# Altium schematic symbol library kmilo17pet-TI_BattMgmt.SchLib: 950 symbols (part 52 of 60)
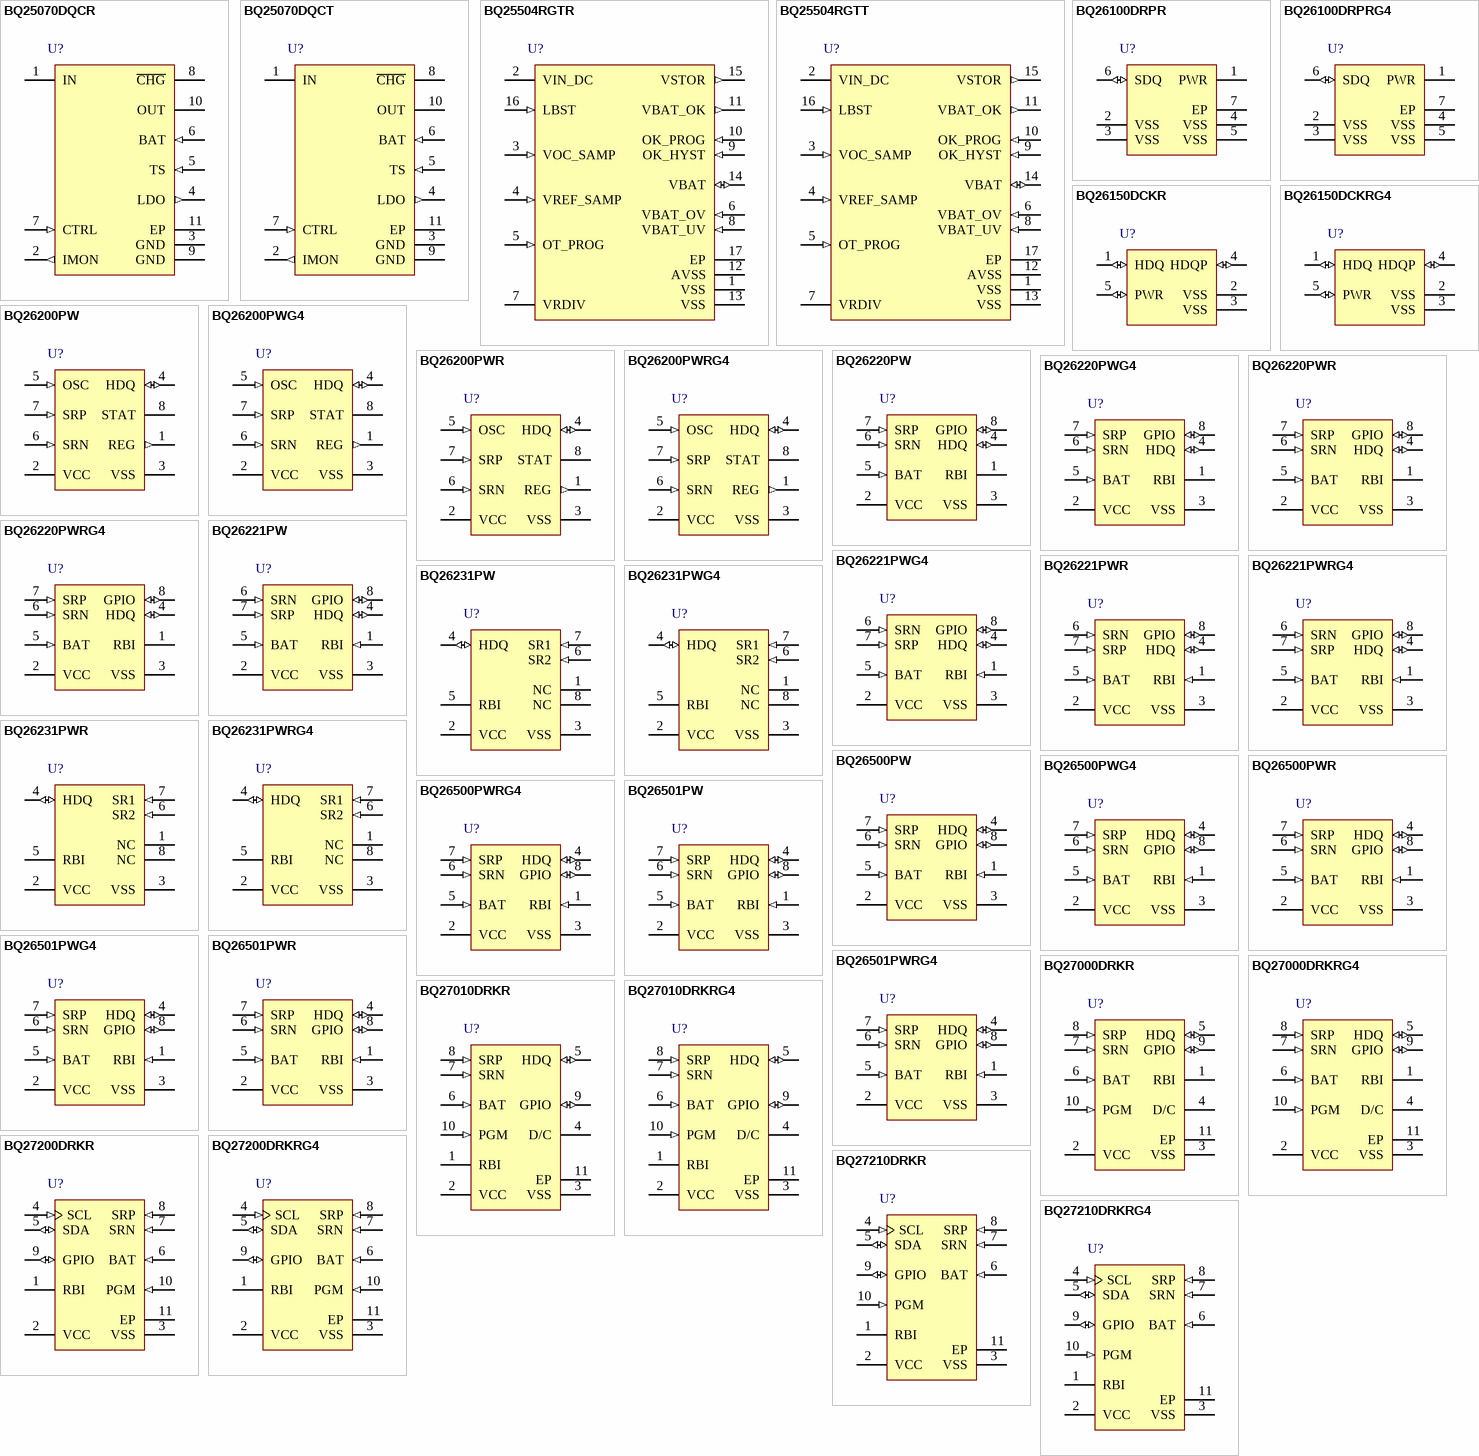
[diagram p85: symbols BQ25070DQCR to BQ27210DRKRG4]

## BQ26501PWG4
designator U?
OMAP Compatible Fuel Gauge for 1 & 2 Cell Li-Ion, -20 to 70 degC, 8-pin TSSOP (PW), Green (RoHS & no Sb/Br); PartNumber: BQ26501PWG4; Manufacturer: Texas Instruments; Lead Acid: N; SubFamily: Battery Fuel Gauge; DatasheetVersion: SLUS586B; PackageVersion: revG, Feb-2011; PackageReference: PW8; PackageDescription: 8-Pin Plastic Thin Small Outline Package 3 x 4.4 mm Body ,0.65 mm Pitch; Supplier 1: Digi-Key; Supplier Part Number 1: BQ26501PWG4-ND; Supplier Part Number 3: 595-BQ26501PWG4; Eco-Plan: Green (RoHS & no Sb/Br); Li-Ion: N; Li-Polymer: N; NiCd: N; NiMH: N; Over Voltage Protection: N; Mounting Technology: Surface Mount; Code_JEDEC: MO-153; ComponentLink1Description: Datasheet; ComponentLink1URL: http://www.ti.com/general/docs/lit/getliterature.tsp?genericPartNumber=BQ26501&fileType=pdf
footprint PW8_N (TSOP, 8-Leads, Body 3x4.4mm, Pitch 0.65mm, IPC Medium Density)
footprint PW8_L (TSOP, 8-Leads, Body 3x4.4mm, Pitch 0.65mm, IPC High Density)
footprint PW8_M (TSOP, 8-Leads, Body 3x4.4mm, Pitch 0.65mm, IPC Low Density)
pins: 1 RBI (in) "Register back-up input", 2 VCC (power) "VCC supply input", 3 VSS (power) "Ground input", 4 HDQ (io) "Single-wire HDQ serial interface", 5 BAT (in) "Battery voltage sense input", 6 SRN (in) "Current sense input (negative)", 7 SRP (in) "Current sense input (positive)", 8 GPIO (io) "General-purpose input/output port"

## BQ26501PWR
designator U?
OMAP Compatible Fuel Gauge for 1 & 2 Cell Li-Ion, -20 to 70 degC, 8-pin TSSOP (PW), Green (RoHS & no Sb/Br); PartNumber: BQ26501PWR; Manufacturer: Texas Instruments; Lead Acid: N; SubFamily: Battery Fuel Gauge; DatasheetVersion: SLUS586B; PackageVersion: revG, Feb-2011; PackageReference: PW8; PackageDescription: 8-Pin Plastic Thin Small Outline Package 3 x 4.4 mm Body ,0.65 mm Pitch; Supplier 1: Digi-Key; Supplier Part Number 1: 296-31471-2-ND; Supplier Part Number 3: 296-31471-6-ND; Eco-Plan: Green (RoHS & no Sb/Br); Li-Ion: N; Li-Polymer: N; NiCd: N; NiMH: N; Over Voltage Protection: N; Mounting Technology: Surface Mount; Code_JEDEC: MO-153; ComponentLink1Description: Datasheet; ComponentLink1URL: http://www.ti.com/general/docs/lit/getliterature.tsp?genericPartNumber=BQ26501&fileType=pdf
footprint PW8_N (TSOP, 8-Leads, Body 3x4.4mm, Pitch 0.65mm, IPC Medium Density)
footprint PW8_L (TSOP, 8-Leads, Body 3x4.4mm, Pitch 0.65mm, IPC High Density)
footprint PW8_M (TSOP, 8-Leads, Body 3x4.4mm, Pitch 0.65mm, IPC Low Density)
pins: 1 RBI (in) "Register back-up input", 2 VCC (power) "VCC supply input", 3 VSS (power) "Ground input", 4 HDQ (io) "Single-wire HDQ serial interface", 5 BAT (in) "Battery voltage sense input", 6 SRN (in) "Current sense input (negative)", 7 SRP (in) "Current sense input (positive)", 8 GPIO (io) "General-purpose input/output port"

## BQ26501PWRG4
designator U?
OMAP Compatible Fuel Gauge for 1 & 2 Cell Li-Ion, -20 to 70 degC, 8-pin TSSOP (PW), Green (RoHS & no Sb/Br); PartNumber: BQ26501PWRG4; Manufacturer: Texas Instruments; Lead Acid: N; SubFamily: Battery Fuel Gauge; DatasheetVersion: SLUS586B; PackageVersion: revG, Feb-2011; PackageReference: PW8; PackageDescription: 8-Pin Plastic Thin Small Outline Package 3 x 4.4 mm Body ,0.65 mm Pitch; Supplier 1: Digi-Key; Supplier Part Number 1: BQ26501PWRG4-ND; Supplier Part Number 3: 595-BQ26501PWRG4; Eco-Plan: Green (RoHS & no Sb/Br); Li-Ion: N; Li-Polymer: N; NiCd: N; NiMH: N; Over Voltage Protection: N; Mounting Technology: Surface Mount; Code_JEDEC: MO-153; ComponentLink1Description: Datasheet; ComponentLink1URL: http://www.ti.com/general/docs/lit/getliterature.tsp?genericPartNumber=BQ26501&fileType=pdf
footprint PW8_N (TSOP, 8-Leads, Body 3x4.4mm, Pitch 0.65mm, IPC Medium Density)
footprint PW8_L (TSOP, 8-Leads, Body 3x4.4mm, Pitch 0.65mm, IPC High Density)
footprint PW8_M (TSOP, 8-Leads, Body 3x4.4mm, Pitch 0.65mm, IPC Low Density)
pins: 1 RBI (in) "Register back-up input", 2 VCC (power) "VCC supply input", 3 VSS (power) "Ground input", 4 HDQ (io) "Single-wire HDQ serial interface", 5 BAT (in) "Battery voltage sense input", 6 SRN (in) "Current sense input (negative)", 7 SRP (in) "Current sense input (positive)", 8 GPIO (io) "General-purpose input/output port"

## BQ27000DRKR
designator U?
Single-Cell Li-Ion and Li-Pol Battery Gas Gauge IC, -20 to 70 degC, 10-pin VSON (DRK), Green (RoHS & no Sb/Br); PartNumber: BQ27000DRKR; Manufacturer: Texas Instruments; Lead Acid: N; Li-Ion: Y; SubFamily: Battery Fuel Gauge; DatasheetVersion: SLUS556D; PackageVersion: revD, Feb-2011; PackageReference: DRK10-2050X2650TP; PackageDescription: 10-Pin Plastic Small Outline No-Lead, 4 x 3 x 1 mm Body, 0.5 mm Pitch, Exposed Pad; Supplier 1: Digi-Key; Supplier Part Number 1: 296-17428-2-ND; Supplier Part Number 3: 296-17428-6-ND; Eco-Plan: Green (RoHS & no Sb/Br); Li-Polymer: N; NiCd: N; NiMH: N; Over Voltage Protection: N; Mounting Technology: Surface Mount; ComponentLink1Description: Datasheet; ComponentLink1URL: http://www.ti.com/general/docs/lit/getliterature.tsp?genericPartNumber=BQ27000&fileType=pdf
footprint DRK10-2050X2650TP (SON, 10-Leads, Body 4x3mm, Pitch 0.5mm, Thermal Pad 2.05x2.65mm, TI Recommended)
pins: 1 RBI (power) "Register back-up input", 2 VCC (power) "VCC supply input", 3 VSS (power) "Ground input", 4 D/C "Do not connect. Must be left floating or tied to VSS", 5 HDQ (io) "Single wire HDQ serial interface", 6 BAT (in) "Battery voltage sense input", 7 SRN (in) "Current sense input (negative)", 8 SRP (in) "Current sense input (positive)", 9 GPIO (io) "General purpose input/output", 10 PGM (in) "EEPROM programming voltage input", 11 EP (power) "Ground shield"

## BQ27000DRKRG4
designator U?
Single-Cell Li-Ion and Li-Pol Battery Gas Gauge IC, -20 to 70 degC, 10-pin VSON (DRK), Green (RoHS & no Sb/Br); PartNumber: BQ27000DRKRG4; Manufacturer: Texas Instruments; Lead Acid: N; Li-Ion: Y; SubFamily: Battery Fuel Gauge; DatasheetVersion: SLUS556D; PackageVersion: revD, Feb-2011; PackageReference: DRK10-2050X2650TP; PackageDescription: 10-Pin Plastic Small Outline No-Lead, 4 x 3 x 1 mm Body, 0.5 mm Pitch, Exposed Pad; Supplier 1: Digi-Key; Supplier Part Number 1: BQ27000DRKRG4-ND; Supplier Part Number 3: 595-BQ27000DRKRG4; Eco-Plan: Green (RoHS & no Sb/Br); Li-Polymer: N; NiCd: N; NiMH: N; Over Voltage Protection: N; Mounting Technology: Surface Mount; ComponentLink1Description: Datasheet; ComponentLink1URL: http://www.ti.com/general/docs/lit/getliterature.tsp?genericPartNumber=BQ27000&fileType=pdf
footprint DRK10-2050X2650TP (SON, 10-Leads, Body 4x3mm, Pitch 0.5mm, Thermal Pad 2.05x2.65mm, TI Recommended)
pins: 1 RBI (power) "Register back-up input", 2 VCC (power) "VCC supply input", 3 VSS (power) "Ground input", 4 D/C "Do not connect. Must be left floating or tied to VSS", 5 HDQ (io) "Single wire HDQ serial interface", 6 BAT (in) "Battery voltage sense input", 7 SRN (in) "Current sense input (negative)", 8 SRP (in) "Current sense input (positive)", 9 GPIO (io) "General purpose input/output", 10 PGM (in) "EEPROM programming voltage input", 11 EP (power) "Ground shield"

## BQ27010DRKR
designator U?
Li-Ion and Li-Pol Battery Gas Gauge IC for Portable Applications (bqJUNIOR), 10-pin VSON (DRK), Green (RoHS & no Sb/Br); PartNumber: BQ27010DRKR; Manufacturer: Texas Instruments; Lead Acid: N; Li-Ion: Y; SubFamily: Battery Fuel Gauge; DatasheetVersion: SLUS707B; PackageVersion: revD, Feb-2011; PackageReference: DRK10-2050X2650TP; PackageDescription: 10-Pin Plastic Small Outline No-Lead, 4 x 3 x 1 mm Body, 0.5 mm Pitch, Exposed Pad; Supplier 1: Digi-Key; Supplier Part Number 1: 296-20634-2-ND; Supplier Part Number 3: 296-20634-6-ND; Eco-Plan: Green (RoHS & no Sb/Br); Li-Polymer: Y; NiCd: N; NiMH: N; Over Voltage Protection: N; Mounting Technology: Surface Mount; ComponentLink1Description: Datasheet; ComponentLink1URL: http://www.ti.com/general/docs/lit/getliterature.tsp?genericPartNumber=BQ27010&fileType=pdf
footprint DRK10-2050X2650TP (SON, 10-Leads, Body 4x3mm, Pitch 0.5mm, Thermal Pad 2.05x2.65mm, TI Recommended)
pins: 1 RBI (power) "Register back-up input", 2 VCC (power) "VCC supply input", 3 VSS (power) "Ground input", 4 D/C "Do not connect. Must be left floating or tied to VSS", 5 HDQ (io) "Single wire HDQ serial interface", 6 BAT (in) "Battery voltage sense input", 7 SRN (in) "Current sense input (negative)", 8 SRP (in) "Current sense input (positive)", 9 GPIO (io) "General purpose input/output", 10 PGM (in) "EEPROM programming voltage input", 11 EP (power) "Ground shield"

## BQ27010DRKRG4
designator U?
Li-Ion and Li-Pol Battery Gas Gauge IC for Portable Applications (bqJUNIOR), 10-pin VSON (DRK), Green (RoHS & no Sb/Br); PartNumber: BQ27010DRKRG4; Manufacturer: Texas Instruments; Lead Acid: N; Li-Ion: Y; SubFamily: Battery Fuel Gauge; DatasheetVersion: SLUS707B; PackageVersion: revD, Feb-2011; PackageReference: DRK10-2050X2650TP; PackageDescription: 10-Pin Plastic Small Outline No-Lead, 4 x 3 x 1 mm Body, 0.5 mm Pitch, Exposed Pad; Supplier 1: Digi-Key; Supplier Part Number 1: BQ27010DRKRG4-ND; Supplier Part Number 3: 595-BQ27010DRKRG4; Eco-Plan: Green (RoHS & no Sb/Br); Li-Polymer: Y; NiCd: N; NiMH: N; Over Voltage Protection: N; Mounting Technology: Surface Mount; ComponentLink1Description: Datasheet; ComponentLink1URL: http://www.ti.com/general/docs/lit/getliterature.tsp?genericPartNumber=BQ27010&fileType=pdf
footprint DRK10-2050X2650TP (SON, 10-Leads, Body 4x3mm, Pitch 0.5mm, Thermal Pad 2.05x2.65mm, TI Recommended)
pins: 1 RBI (power) "Register back-up input", 2 VCC (power) "VCC supply input", 3 VSS (power) "Ground input", 4 D/C "Do not connect. Must be left floating or tied to VSS", 5 HDQ (io) "Single wire HDQ serial interface", 6 BAT (in) "Battery voltage sense input", 7 SRN (in) "Current sense input (negative)", 8 SRP (in) "Current sense input (positive)", 9 GPIO (io) "General purpose input/output", 10 PGM (in) "EEPROM programming voltage input", 11 EP (power) "Ground shield"

## BQ27200DRKR
designator U?
Single-Cell Li-Ion and Li-Pol Battery Gas Gauge IC with I2C Interface, -20 to 70 degC, 10-pin VSON (DRK), Green (RoHS & no Sb/Br); PartNumber: BQ27200DRKR; Manufacturer: Texas Instruments; Lead Acid: N; Li-Ion: Y; SubFamily: Battery Fuel Gauge; DatasheetVersion: SLUS556D; PackageVersion: revD, Feb-2011; PackageReference: DRK10-2050X2650TP; PackageDescription: 10-Pin Plastic Small Outline No-Lead, 4 x 3 x 1 mm Body, 0.5 mm Pitch, Exposed Pad; Supplier 1: Digi-Key; Supplier Part Number 1: 296-17521-2-ND; Supplier Part Number 3: 296-17521-6-ND; Eco-Plan: Green (RoHS & no Sb/Br); Li-Polymer: Y; NiCd: N; NiMH: N; Over Voltage Protection: N; Mounting Technology: Surface Mount; ComponentLink1Description: Datasheet; ComponentLink1URL: http://www.ti.com/general/docs/lit/getliterature.tsp?genericPartNumber=BQ27200&fileType=pdf
footprint DRK10-2050X2650TP (SON, 10-Leads, Body 4x3mm, Pitch 0.5mm, Thermal Pad 2.05x2.65mm, TI Recommended)
pins: 1 RBI (power) "Register back-up input", 2 VCC (power) "VCC supply input", 3 VSS (power) "Ground input", 4 SCL (in) "Serial clock input (I2C)", 5 SDA (io) "Serial data input (I2C)", 6 BAT (in) "Battery voltage sense input", 7 SRN (in) "Current sense input (negative)", 8 SRP (in) "Current sense input (positive)", 9 GPIO (io) "General purpose input/output", 10 PGM (in) "EEPROM programming voltage input", 11 EP (power) "Ground shield"

## BQ27200DRKRG4
designator U?
Single-Cell Li-Ion and Li-Pol Battery Gas Gauge IC with I2C Interface, -20 to 70 degC, 10-pin VSON (DRK), Green (RoHS & no Sb/Br); PartNumber: BQ27200DRKRG4; Manufacturer: Texas Instruments; Lead Acid: N; Li-Ion: Y; SubFamily: Battery Fuel Gauge; DatasheetVersion: SLUS556D; PackageVersion: revD, Feb-2011; PackageReference: DRK10-2050X2650TP; PackageDescription: 10-Pin Plastic Small Outline No-Lead, 4 x 3 x 1 mm Body, 0.5 mm Pitch, Exposed Pad; Supplier 1: Digi-Key; Supplier Part Number 1: BQ27200DRKRG4-ND; Supplier Part Number 3: 595-BQ27200DRKRG4; Eco-Plan: Green (RoHS & no Sb/Br); Li-Polymer: Y; NiCd: N; NiMH: N; Over Voltage Protection: N; Mounting Technology: Surface Mount; ComponentLink1Description: Datasheet; ComponentLink1URL: http://www.ti.com/general/docs/lit/getliterature.tsp?genericPartNumber=BQ27200&fileType=pdf
footprint DRK10-2050X2650TP (SON, 10-Leads, Body 4x3mm, Pitch 0.5mm, Thermal Pad 2.05x2.65mm, TI Recommended)
pins: 1 RBI (power) "Register back-up input", 2 VCC (power) "VCC supply input", 3 VSS (power) "Ground input", 4 SCL (in) "Serial clock input (I2C)", 5 SDA (io) "Serial data input (I2C)", 6 BAT (in) "Battery voltage sense input", 7 SRN (in) "Current sense input (negative)", 8 SRP (in) "Current sense input (positive)", 9 GPIO (io) "General purpose input/output", 10 PGM (in) "EEPROM programming voltage input", 11 EP (power) "Ground shield"

## BQ27210DRKR
designator U?
Li-Ion and Li-Pol Battery Gas Gauge IC for Portable Applications (bqJUNIOR), -20 to 70 degC, 10-pin VSON (DRK), Green (RoHS & no Sb/Br); PartNumber: BQ27210DRKR; Manufacturer: Texas Instruments; Lead Acid: N; Li-Ion: Y; SubFamily: Battery Fuel Gauge; DatasheetVersion: SLUS707B; PackageVersion: revD, Feb-2011; PackageReference: DRK10-2050X2650TP; PackageDescription: 10-Pin Plastic Small Outline No-Lead, 4 x 3 x 1 mm Body, 0.5 mm Pitch, Exposed Pad; Supplier 1: Digi-Key; Supplier Part Number 1: 296-21511-2-ND; Supplier Part Number 3: 296-21511-6-ND; Eco-Plan: Green (RoHS & no Sb/Br); Li-Polymer: Y; NiCd: N; NiMH: N; Over Voltage Protection: N; Mounting Technology: Surface Mount; ComponentLink1Description: Datasheet; ComponentLink1URL: http://www.ti.com/general/docs/lit/getliterature.tsp?genericPartNumber=BQ27210&fileType=pdf
footprint DRK10-2050X2650TP (SON, 10-Leads, Body 4x3mm, Pitch 0.5mm, Thermal Pad 2.05x2.65mm, TI Recommended)
pins: 1 RBI (power) "Register back-up input", 2 VCC (power) "VCC supply input", 3 VSS (power) "Ground input", 4 SCL (in) "Serial clock input (I2C)", 5 SDA (io) "Serial data input (I2C)", 6 BAT (in) "Battery voltage sense input", 7 SRN (in) "Current sense input (negative)", 8 SRP (in) "Current sense input (positive)", 9 GPIO (io) "General purpose input/output", 10 PGM (in) "EEPROM programming voltage input", 11 EP (power) "Ground shield"

## BQ27210DRKRG4
designator U?
Li-Ion and Li-Pol Battery Gas Gauge IC for Portable Applications (bqJUNIOR), -20 to 70 degC, 10-pin VSON (DRK), Green (RoHS & no Sb/Br); PartNumber: BQ27210DRKRG4; Manufacturer: Texas Instruments; Lead Acid: N; Li-Ion: Y; SubFamily: Battery Fuel Gauge; DatasheetVersion: SLUS707B; PackageVersion: revD, Feb-2011; PackageReference: DRK10-2050X2650TP; PackageDescription: 10-Pin Plastic Small Outline No-Lead, 4 x 3 x 1 mm Body, 0.5 mm Pitch, Exposed Pad; Supplier 1: Digi-Key; Supplier Part Number 1: BQ27210DRKRG4-ND; Supplier Part Number 3: 595-BQ27210DRKRG4; Eco-Plan: Green (RoHS & no Sb/Br); Li-Polymer: Y; NiCd: N; NiMH: N; Over Voltage Protection: N; Mounting Technology: Surface Mount; ComponentLink1Description: Datasheet; ComponentLink1URL: http://www.ti.com/general/docs/lit/getliterature.tsp?genericPartNumber=BQ27210&fileType=pdf
footprint DRK10-2050X2650TP (SON, 10-Leads, Body 4x3mm, Pitch 0.5mm, Thermal Pad 2.05x2.65mm, TI Recommended)
pins: 1 RBI (power) "Register back-up input", 2 VCC (power) "VCC supply input", 3 VSS (power) "Ground input", 4 SCL (in) "Serial clock input (I2C)", 5 SDA (io) "Serial data input (I2C)", 6 BAT (in) "Battery voltage sense input", 7 SRN (in) "Current sense input (negative)", 8 SRP (in) "Current sense input (positive)", 9 GPIO (io) "General purpose input/output", 10 PGM (in) "EEPROM programming voltage input", 11 EP (power) "Ground shield"

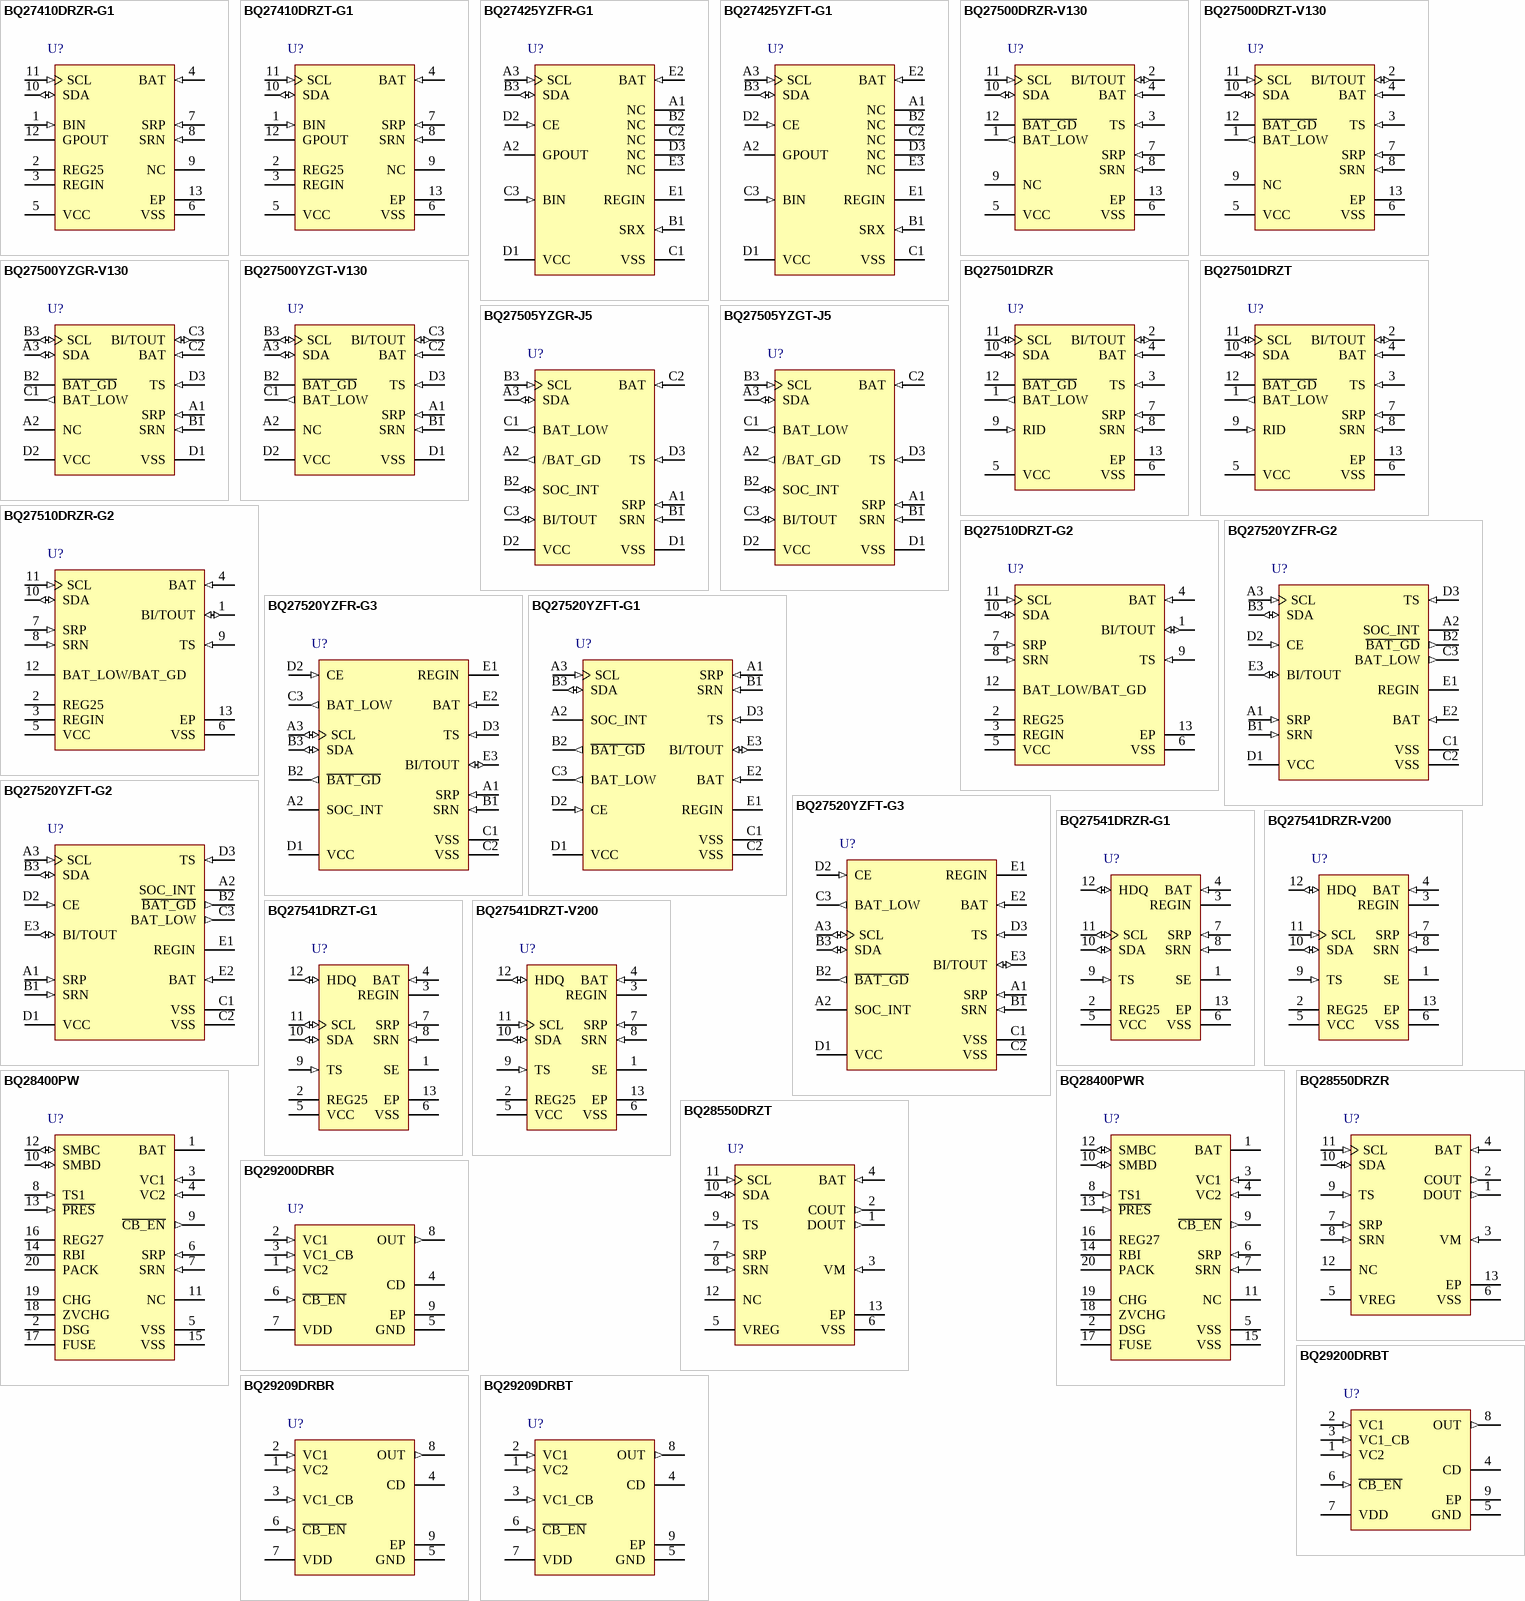
[diagram p29: symbols BQ27410DRZR-G1 to BQ29209DRBT]

## BQ27410DRZR-G1
designator U?
System-Side Impedance Track Fuel Gauge with Direct Battery Connection, -40 to 85 degC, 12-pin SON (DRZ), Green (RoHS & no Sb/Br); PartNumber: BQ27410DRZR-G1; Manufacturer: Texas Instruments; Lead Acid: N; Li-Ion: Y; SubFamily: Battery Fuel Gauge; DatasheetVersion: SLUSAF4; PackageVersion: revB, Apr-2006; PackageReference: DRZ12-1950X2450TP; PackageDescription: 12-Pin Plastic Small Outline No-Lead, 4 x 2.5 x 1 mm Body, 0.4 mm Pitch, Exposed Pad, Pb-Free; Supplier 1: Digi-Key; Supplier Part Number 1: BQ27410DRZR-G1-ND; Supplier Part Number 3: 595-BQ27410DRZR-G1; Eco-Plan: Green (RoHS & no Sb/Br); Li-Polymer: Y; NiCd: N; NiMH: N; Over Voltage Protection: N; Mounting Technology: Surface Mount; ComponentLink1Description: Datasheet; ComponentLink1URL: http://www.ti.com/general/docs/lit/getliterature.tsp?genericPartNumber=BQ27410-G1&fileType=pdf
footprint DRZ12-1950X2450TP (SON, 12-Leads, Body 4x2.5mm, Pitch 0.4mm, Thermal Pad 1.95x2.45mm, TI Recommended)
pins: 1 BIN (in) "Battery-insertion detection input. A logic high to low transition is detected as a battery insertion event.", 2 REG25 (power) "2.5 V output voltage of the internal integrated LDO.", 3 REGIN (power) "The input voltage for the internal integrated LDO.", 4 BAT (in) "Cell-voltage measurement input. ADC input. Recommend 4.8V maximum for conversion accuracy.", 5 VCC (power) "Processor power input. Decouple with minimum 0.1µF ceramic capacitor.", 6 VSS (power) "Device ground", 7 SRP (in) "Analog input pin connected to the internal coulomb counter where SRP is nearest the PACK- connection.Connect to 5-mohm to 20-mohm sense resistor.", 8 SRN (in) "Analog input pin connected to the internal coulomb counter where SRN is nearest the Vss connection.Connect to 5-mohm to 20-mohm sense resistor.", 9 NC "No Connect.", 10 SDA (io) "Slave I2C serial communications data line for communication with system (Master). Open-drain I/O. Use with 10kohm pull-up resistor (typical).", 11 SCL (in) "Slave I2C serial communications clock input line for communication with system (Master). Use with 10kohm pull-up resistor (typical).", 12 GPOUT (oc) "General Purpose open-drain output. May be configured as Battery Low indicator or perform SOC interrupt (SOC_INT) function.", 13 EP "Exposed thermal pad"

## BQ27410DRZT-G1
designator U?
System-Side Impedance Track Fuel Gauge with Direct Battery Connection, -40 to 85 degC, 12-pin SON (DRZ), Green (RoHS & no Sb/Br); PartNumber: BQ27410DRZT-G1; Manufacturer: Texas Instruments; Lead Acid: N; Li-Ion: Y; SubFamily: Battery Fuel Gauge; DatasheetVersion: SLUSAF4; PackageVersion: revB, Apr-2006; PackageReference: DRZ12-1950X2450TP; PackageDescription: 12-Pin Plastic Small Outline No-Lead, 4 x 2.5 x 1 mm Body, 0.4 mm Pitch, Exposed Pad, Pb-Free; Supplier 1: Digi-Key; Supplier Part Number 1: 296-28410-2-ND; Supplier Part Number 3: 296-28410-6-ND; Eco-Plan: Green (RoHS & no Sb/Br); Li-Polymer: Y; NiCd: N; NiMH: N; Over Voltage Protection: N; Mounting Technology: Surface Mount; ComponentLink1Description: Datasheet; ComponentLink1URL: http://www.ti.com/general/docs/lit/getliterature.tsp?genericPartNumber=BQ27410-G1&fileType=pdf
footprint DRZ12-1950X2450TP (SON, 12-Leads, Body 4x2.5mm, Pitch 0.4mm, Thermal Pad 1.95x2.45mm, TI Recommended)
pins: 1 BIN (in) "Battery-insertion detection input. A logic high to low transition is detected as a battery insertion event.", 2 REG25 (power) "2.5 V output voltage of the internal integrated LDO.", 3 REGIN (power) "The input voltage for the internal integrated LDO.", 4 BAT (in) "Cell-voltage measurement input. ADC input. Recommend 4.8V maximum for conversion accuracy.", 5 VCC (power) "Processor power input. Decouple with minimum 0.1µF ceramic capacitor.", 6 VSS (power) "Device ground", 7 SRP (in) "Analog input pin connected to the internal coulomb counter where SRP is nearest the PACK- connection.Connect to 5-mohm to 20-mohm sense resistor.", 8 SRN (in) "Analog input pin connected to the internal coulomb counter where SRN is nearest the Vss connection.Connect to 5-mohm to 20-mohm sense resistor.", 9 NC "No Connect.", 10 SDA (io) "Slave I2C serial communications data line for communication with system (Master). Open-drain I/O. Use with 10kohm pull-up resistor (typical).", 11 SCL (in) "Slave I2C serial communications clock input line for communication with system (Master). Use with 10kohm pull-up resistor (typical).", 12 GPOUT (oc) "General Purpose open-drain output. May be configured as Battery Low indicator or perform SOC interrupt (SOC_INT) function.", 13 EP "Exposed thermal pad"

## BQ27425YZFR-G1
designator U?
System-Side Impedance Track Fuel Gauge with Direct Battery Connection, -40 to 85 degC, 15-pin DSBGA (YZF), Green (RoHS & no Sb/Br); PartNumber: BQ27425YZFR-G1; Manufacturer: Texas Instruments; Lead Acid: N; Li-Ion: Y; SubFamily: Battery Fuel Gauge; DatasheetVersion: SLUSAI6; PackageVersion: revM, Sep-2011; PackageReference: YZF15-2690X1750DE; PackageDescription: 15-Ball Die-Size Ball Grid Array, 2.69 x 1.75 mm Body, 0.5 mm Pitch, Pb-Free; Supplier 1: Digi-Key; Supplier Part Number 1: BQ27425YZFR-G1-ND; Supplier Part Number 3: 595-BQ27425YZFR-G1; Eco-Plan: Green (RoHS & no Sb/Br); Li-Polymer: Y; NiCd: N; NiMH: N; Over Voltage Protection: N; Mounting Technology: Surface Mount; ComponentLink1Description: Datasheet; ComponentLink1URL: http://www.ti.com/general/docs/lit/getliterature.tsp?genericPartNumber=BQ27425-G1&fileType=pdf
footprint YZF15-2690X1750DE (BGA, 15-Leads, Body 2.69x1.75mm, Pitch 0.5mm)
pins: A1 NC "No Connect.", A2 GPOUT (oc) "General Purpose open-drain output. May be configured as a Battery Low indicator or perform SOC interrupt (SOC_INT) function.", A3 SCL (in) "Slave I2C serial communications clock input line for communication with system (Master). Use with 10kO pull-up", B1 SRX (in) "Integrated Sense Resistor and Coulomb Counter input typically connected to battery PACK- terminal. For best performance decouple with 0.1uF ceramic capacitor to VSS.", B2 NC "No Connect.", B3 SDA (io) "Slave I2C serial communications data line for communication with system (Master). Open-drain I/O. Use with 10kO pull-up resistor (typical).", C1 VSS (power) "Device ground and Integrated Sense Resistor termination.", C2 NC "No Connect.", C3 BIN (in) "using a pull-up resistor >1MO (1.8 MO typical) to VCC for reduced power consumption. An internal pull-up resistor option is also available using the Operation Configuration[BI_PU_EN] register bit.", D1 VCC (power) "Regulator output and bq27425 processor power. Decouple with 1uF ceramic capacitor to VSS.", D2 CE (in) "Chip Enable. Internal LDO is disconnected from REGIN when driven low.", D3 NC "No Connect.", E1 REGIN (power) "Regulator input. Decouple with 0.1uF ceramic capacitor to VSS.", E2 BAT (in) "Cell-voltage measurement input. ADC input. Recommend 4.8V maximum for conversion accuracy.", E3 NC "No Connect."

## BQ27425YZFT-G1
designator U?
System-Side Impedance Track Fuel Gauge with Direct Battery Connection, -40 to 85 degC, 15-pin DSBGA (YZF), Green (RoHS & no Sb/Br); PartNumber: BQ27425YZFT-G1; Manufacturer: Texas Instruments; Lead Acid: N; Li-Ion: Y; SubFamily: Battery Fuel Gauge; DatasheetVersion: SLUSAI6; PackageVersion: revM, Sep-2011; PackageReference: YZF15-2690X1750DE; PackageDescription: 15-Ball Die-Size Ball Grid Array, 2.69 x 1.75 mm Body, 0.5 mm Pitch, Pb-Free; Supplier 1: Digi-Key; Supplier Part Number 1: 296-29931-2-ND; Supplier Part Number 3: 296-29931-6-ND; Eco-Plan: Green (RoHS & no Sb/Br); Li-Polymer: Y; NiCd: N; NiMH: N; Over Voltage Protection: N; Mounting Technology: Surface Mount; ComponentLink1Description: Datasheet; ComponentLink1URL: http://www.ti.com/general/docs/lit/getliterature.tsp?genericPartNumber=BQ27425-G1&fileType=pdf
footprint YZF15-2690X1750DE (BGA, 15-Leads, Body 2.69x1.75mm, Pitch 0.5mm)
pins: A1 NC "No Connect.", A2 GPOUT (oc) "General Purpose open-drain output. May be configured as a Battery Low indicator or perform SOC interrupt (SOC_INT) function.", A3 SCL (in) "Slave I2C serial communications clock input line for communication with system (Master). Use with 10kO pull-up", B1 SRX (in) "Integrated Sense Resistor and Coulomb Counter input typically connected to battery PACK- terminal. For best performance decouple with 0.1uF ceramic capacitor to VSS.", B2 NC "No Connect.", B3 SDA (io) "Slave I2C serial communications data line for communication with system (Master). Open-drain I/O. Use with 10kO pull-up resistor (typical).", C1 VSS (power) "Device ground and Integrated Sense Resistor termination.", C2 NC "No Connect.", C3 BIN (in) "using a pull-up resistor >1MO (1.8 MO typical) to VCC for reduced power consumption. An internal pull-up resistor option is also available using the Operation Configuration[BI_PU_EN] register bit.", D1 VCC (power) "Regulator output and bq27425 processor power. Decouple with 1uF ceramic capacitor to VSS.", D2 CE (in) "Chip Enable. Internal LDO is disconnected from REGIN when driven low.", D3 NC "No Connect.", E1 REGIN (power) "Regulator input. Decouple with 0.1uF ceramic capacitor to VSS.", E2 BAT (in) "Cell-voltage measurement input. ADC input. Recommend 4.8V maximum for conversion accuracy.", E3 NC "No Connect."

## BQ27500DRZR-V130
designator U?
System-Side Impedance Track Fuel Gauge, -40 to 85 degC, 12-pin SON (DRZ), Green (RoHS & no Sb/Br); PartNumber: BQ27500DRZR-V130; Manufacturer: Texas Instruments; Lead Acid: N; Li-Ion: Y; SubFamily: Battery Fuel Gauge; DatasheetVersion: SLUS914A; PackageVersion: revB, Apr-2006; PackageReference: DRZ12-1950X2450TP; PackageDescription: 12-Pin Plastic Small Outline No-Lead, 4 x 2.5 x 1 mm Body, 0.4 mm Pitch, Exposed Pad, Pb-Free; Supplier 1: Digi-Key; Supplier Part Number 1: 296-25319-2-ND; Supplier Part Number 3: 296-25319-6-ND; Eco-Plan: Green (RoHS & no Sb/Br); Li-Polymer: Y; NiCd: N; NiMH: N; Over Voltage Protection: N; Mounting Technology: Surface Mount; ComponentLink1Description: Datasheet; ComponentLink1URL: http://www.ti.com/general/docs/lit/getliterature.tsp?genericPartNumber=BQ27500-V130&fileType=pdf
footprint DRZ12-1950X2450TP (SON, 12-Leads, Body 4x2.5mm, Pitch 0.4mm, Thermal Pad 1.95x2.45mm, TI Recommended)
pins: 1 BAT_LOW (out) "Battery-low output indicator. Pin function controlled by Operation Configuration Register and commands. Active-high by default, though polarity can be configured through the [BATL_POL] in Operation Configuration. Push-pull (See Datasheet)", 2 BI/TOUT (io) "Battery-insertion detection input. Power pin for pack thermistor network. Thermistor multiplexer control pin. Open-drain (OD) I/O. Use with pullup resistor > 1 M ohm (1.8 M ohm typical).", 3 TS (in) "Pack thermistor voltage sense (requires the use of NTC 103AT-type thermistor). ADC input.", 4 BAT (in) "Cell-voltage measurement input. ADC input. Decouple with 0.1-uF capacitor", 5 VCC (power) "Processor power input. Decouple with 0.1-uF capacitor, minimum.", 6 VSS (power) "Device ground. Electrically connected to the IC exposed thermal pad (do not use thermal pad as primary ground. Connect thermal pad to VSS via a PCB trace).", 7 SRP (in) "Analog input pin connected to the internal coulomb counter, where SRP is nearest the PACK- connection. Connect to 5-m ohm to 20-m ohm sense resistor.", 8 SRN (in) "Analog input pin connected to the internal coulomb counter where SRN is nearest the system VSS connection. Connect to 5-m ohm to 20-m ohm sense resistor.", 9 NC "No connection", 10 SDA (io) "Slave I2C serial communications data line for communication with system (master). Open-drain (OD) I/O. Use with 10-k ohm pullup resistor (typical).", 11 SCL (in) "Slave I2C serial communications clock input line for communication with system (master). Open-drain (OD) I/O. Use with 10-k ohm pullup resistor (typical).", 12 ~{BAT_GD} (hiz) "Battery-good indicator. Active-low by default, though polarity can be configured through the [BATG_POL] of Operation Configuration.Open-drain (OD) output", 13 EP (power) "Exposed pad"

## BQ27500DRZT-V130
designator U?
System-Side Impedance Track Fuel Gauge, -40 to 85 degC, 12-pin SON (DRZ), Green (RoHS & no Sb/Br); PartNumber: BQ27500DRZT-V130; Manufacturer: Texas Instruments; Lead Acid: N; Li-Ion: Y; SubFamily: Battery Fuel Gauge; DatasheetVersion: SLUS914A; PackageVersion: revB, Apr-2006; PackageReference: DRZ12-1950X2450TP; PackageDescription: 12-Pin Plastic Small Outline No-Lead, 4 x 2.5 x 1 mm Body, 0.4 mm Pitch, Exposed Pad, Pb-Free; Supplier 1: Digi-Key; Supplier Part Number 1: BQ27500DRZT-V130-ND; Supplier Part Number 3: 595-BQ27500DRZT-V130; Eco-Plan: Green (RoHS & no Sb/Br); Li-Polymer: Y; NiCd: N; NiMH: N; Over Voltage Protection: N; Mounting Technology: Surface Mount; ComponentLink1Description: Datasheet; ComponentLink1URL: http://www.ti.com/general/docs/lit/getliterature.tsp?genericPartNumber=BQ27500-V130&fileType=pdf
footprint DRZ12-1950X2450TP (SON, 12-Leads, Body 4x2.5mm, Pitch 0.4mm, Thermal Pad 1.95x2.45mm, TI Recommended)
pins: 1 BAT_LOW (out) "Battery-low output indicator. Pin function controlled by Operation Configuration Register and commands. Active-high by default, though polarity can be configured through the [BATL_POL] in Operation Configuration. Push-pull (See Datasheet)", 2 BI/TOUT (io) "Battery-insertion detection input. Power pin for pack thermistor network. Thermistor multiplexer control pin. Open-drain (OD) I/O. Use with pullup resistor > 1 M ohm (1.8 M ohm typical).", 3 TS (in) "Pack thermistor voltage sense (requires the use of NTC 103AT-type thermistor). ADC input.", 4 BAT (in) "Cell-voltage measurement input. ADC input. Decouple with 0.1-uF capacitor", 5 VCC (power) "Processor power input. Decouple with 0.1-uF capacitor, minimum.", 6 VSS (power) "Device ground. Electrically connected to the IC exposed thermal pad (do not use thermal pad as primary ground. Connect thermal pad to VSS via a PCB trace).", 7 SRP (in) "Analog input pin connected to the internal coulomb counter, where SRP is nearest the PACK- connection. Connect to 5-m ohm to 20-m ohm sense resistor.", 8 SRN (in) "Analog input pin connected to the internal coulomb counter where SRN is nearest the system VSS connection. Connect to 5-m ohm to 20-m ohm sense resistor.", 9 NC "No connection", 10 SDA (io) "Slave I2C serial communications data line for communication with system (master). Open-drain (OD) I/O. Use with 10-k ohm pullup resistor (typical).", 11 SCL (in) "Slave I2C serial communications clock input line for communication with system (master). Open-drain (OD) I/O. Use with 10-k ohm pullup resistor (typical).", 12 ~{BAT_GD} (hiz) "Battery-good indicator. Active-low by default, though polarity can be configured through the [BATG_POL] of Operation Configuration.Open-drain (OD) output", 13 EP (power) "Exposed pad"

## BQ27500YZGR-V130
designator U?
System-Side Impedance Track Fuel Gauge, -40 to 85 degC, 12-pin DSBGA (YZG), Green (RoHS & no Sb/Br); PartNumber: BQ27500YZGR-V130; Manufacturer: Texas Instruments; Lead Acid: N; Li-Ion: Y; SubFamily: Battery Fuel Gauge; DatasheetVersion: SLUS914A; PackageVersion: revD, Jun-2008; PackageReference: YZG12; PackageDescription: 12-Ball Die-Size Ball Grid Array, 2.43 x 1.96 mm Body, 0.5 mm Pitch; Supplier 1: Digi-Key; Supplier Part Number 1: BQ27500YZGR-V130-ND; Supplier Part Number 3: 595-BQ27500YZGR-V130; Eco-Plan: Green (RoHS & no Sb/Br); Li-Polymer: Y; NiCd: N; NiMH: N; Over Voltage Protection: N; Mounting Technology: Surface Mount; ComponentLink1Description: Datasheet; ComponentLink1URL: http://www.ti.com/general/docs/lit/getliterature.tsp?genericPartNumber=BQ27500-V130&fileType=pdf
footprint YZG12 (BGA, 12-Leads, Body 2.43x1.96mm, Pitch 0.5mm)
pins: A1 SRP (in) "Analog input pin connected to the internal coulomb counter, where SRP is nearest the PACK- connection. Connect to 5-mohm to 20-mohm sense resistor.", A2 NC "No connection", A3 SDA (io) "Slave I2C serial communications data line for communication with system (master). Open-drain (OD) I/O. Use with 10-kohm pullup resistor (typical).", B1 SRN (in) "Analog input pin connected to the internal coulomb counter where SRN is nearest the system VSS connection. Connect to 5-mohm to 20-mohm sense resistor.", B2 ~{BAT_GD} (hiz) "Battery-good indicator. Active-low by default, though polarity can be configured through the [BATG_POL] of Operation Configuration.Open-drain (OD) output", B3 SCL (io) "Slave I2C serial communications clock input line for communication with system (master). Open-drain (OD) I/O. Use with 10-kohm pullup resistor (typical).", C1 BAT_LOW (out) "Battery-low output indicator. Pin function controlled by Operation Configuration Register and commands. Active-high by default, though polarity can be configured through the [BATL_POL] in Operation Configuration.Push-pull (See Datasheet)", C2 BAT (in) "Cell-voltage measurement input. ADC input. Decouple with 0.1-uF capacitor.", C3 BI/TOUT (io) "Battery-insertion detection input. Power pin for pack thermistor network. Thermistor multiplexer control pin. Open-drain (OD) I/O. Use with pullup resistor > 1 M-ohm (1.8 M-ohm typical).", D1 VSS (power) "Device ground. Electrically connected to the IC exposed thermal pad (do not use thermal pad as primary ground. Connect thermal pad to VSS via a PCB trace).", D2 VCC (power) "Processor power input. Decouple with 0.1-uF capacitor, minimum", D3 TS (in) "Pack thermistor voltage sense (requires the use of NTC 103AT-type thermistor). ADC input"

## BQ27500YZGT-V130
designator U?
System-Side Impedance Track Fuel Gauge, -40 to 85 degC, 12-pin DSBGA (YZG), Green (RoHS & no Sb/Br); PartNumber: BQ27500YZGT-V130; Manufacturer: Texas Instruments; Lead Acid: N; Li-Ion: Y; SubFamily: Battery Fuel Gauge; DatasheetVersion: SLUS914A; PackageVersion: revD, Jun-2008; PackageReference: YZG12; PackageDescription: 12-Ball Die-Size Ball Grid Array, 2.43 x 1.96 mm Body, 0.5 mm Pitch; Supplier 1: Digi-Key; Supplier Part Number 1: 296-25719-2-ND; Supplier Part Number 3: 296-25719-6-ND; Eco-Plan: Green (RoHS & no Sb/Br); Li-Polymer: Y; NiCd: N; NiMH: N; Over Voltage Protection: N; Mounting Technology: Surface Mount; ComponentLink1Description: Datasheet; ComponentLink1URL: http://www.ti.com/general/docs/lit/getliterature.tsp?genericPartNumber=BQ27500-V130&fileType=pdf
footprint YZG12 (BGA, 12-Leads, Body 2.43x1.96mm, Pitch 0.5mm)
pins: A1 SRP (in) "Analog input pin connected to the internal coulomb counter, where SRP is nearest the PACK- connection. Connect to 5-mohm to 20-mohm sense resistor.", A2 NC "No connection", A3 SDA (io) "Slave I2C serial communications data line for communication with system (master). Open-drain (OD) I/O. Use with 10-kohm pullup resistor (typical).", B1 SRN (in) "Analog input pin connected to the internal coulomb counter where SRN is nearest the system VSS connection. Connect to 5-mohm to 20-mohm sense resistor.", B2 ~{BAT_GD} (hiz) "Battery-good indicator. Active-low by default, though polarity can be configured through the [BATG_POL] of Operation Configuration.Open-drain (OD) output", B3 SCL (io) "Slave I2C serial communications clock input line for communication with system (master). Open-drain (OD) I/O. Use with 10-kohm pullup resistor (typical).", C1 BAT_LOW (out) "Battery-low output indicator. Pin function controlled by Operation Configuration Register and commands. Active-high by default, though polarity can be configured through the [BATL_POL] in Operation Configuration.Push-pull (See Datasheet)", C2 BAT (in) "Cell-voltage measurement input. ADC input. Decouple with 0.1-uF capacitor.", C3 BI/TOUT (io) "Battery-insertion detection input. Power pin for pack thermistor network. Thermistor multiplexer control pin. Open-drain (OD) I/O. Use with pullup resistor > 1 M-ohm (1.8 M-ohm typical).", D1 VSS (power) "Device ground. Electrically connected to the IC exposed thermal pad (do not use thermal pad as primary ground. Connect thermal pad to VSS via a PCB trace).", D2 VCC (power) "Processor power input. Decouple with 0.1-uF capacitor, minimum", D3 TS (in) "Pack thermistor voltage sense (requires the use of NTC 103AT-type thermistor). ADC input"

## BQ27501DRZR
designator U?
Complete System Side Battery Fuel Gauge with Impedance Track Technology, -40 to 85 degC, 12-pin SON (DRZ), Green (RoHS & no Sb/Br); PartNumber: BQ27501DRZR; Manufacturer: Texas Instruments; Lead Acid: N; Li-Ion: Y; DatasheetVersion: SLUS879A; PackageVersion: revB, Apr-2006; PackageReference: DRZ12-1950X2450TP; PackageDescription: 12-Pin Plastic Small Outline No-Lead, 4 x 2.5 x 1 mm Body, 0.4 mm Pitch, Exposed Pad, Pb-Free; Supplier 1: Digi-Key; Supplier Part Number 1: 296-24135-2-ND; Supplier Part Number 3: 296-24135-6-ND; Eco-Plan: Green (RoHS & no Sb/Br); Li-Polymer: Y; NiCd: N; NiMH: N; Over Voltage Protection: N; SubFamily: Battery Fuel Gauge; Mounting Technology: Surface Mount; ComponentLink1Description: Datasheet; ComponentLink1URL: http://www.ti.com/general/docs/lit/getliterature.tsp?genericPartNumber=BQ27501&fileType=pdf
footprint DRZ12-1950X2450TP (SON, 12-Leads, Body 4x2.5mm, Pitch 0.4mm, Thermal Pad 1.95x2.45mm, TI Recommended)
pins: 1 BAT_LOW (out) "Battery-low output indicator. Active-high by default, though polarity can be configured through the [BATL_POL] in Operation Configuration. Push-pull output", 2 BI/TOUT (io) "Battery-insertion detection input. Power pin for pack thermistor network. Thermistor multiplexer control pin. Push-pull output. Use with pullup resistor > 1 M ohm (1.8 M ohm typical).", 3 TS (in) "Pack thermistor voltage sense (require the use of NTC 103AT-type thermistor). ADC input", 4 BAT (in) "Cell-voltage measurement input. ADC input. Decouple with 0.1uF capacitor.", 5 VCC (power) "Processor power input. Decouple with 0.1-uF minimum capacitor.", 6 VSS (power) "Device ground. Electrically connected to the IC exposed thermal pad (do not use thermal pad as primary ground. Connect thermal pad to Vss via a PCB trace).", 7 SRP (in) "Analog input pin connected to the internal coulomb counter, where SRP is nearest the PACK- connection. Connect to 5-m ohm to 20-m ohm sense resistor.", 8 SRN (in) "Analog input pin connected to the internal coulomb counter where SRN is nearest the System VSS connection. Connect to 5-m ohm to 20-m ohm sense resistor.", 9 RID (in) "Resistor ID input. Analog input with current sourcing capabilities", 10 SDA (io) "Slave I2C serial communications data line for communication with system (master). Open-drain I/O. Use with 10-k ohm pullup resistor (typical).", 11 SCL (io) "Slave I2C serial communications clock input line for communication with system (master). Open-drain I/O.Use with 10-k ohm pullup resistor (typical).", 12 ~{BAT_GD} (oc) "Battery-good indicator. Active-low by default, though polarity can be configured through the [BATG_POL] of Operation Configuration. Open-drain output", 13 EP (power) "exposed pad"

## BQ27501DRZT
designator U?
Complete System Side Battery Fuel Gauge with Impedance Track Technology, -40 to 85 degC, 12-pin SON (DRZ), Green (RoHS & no Sb/Br); PartNumber: BQ27501DRZT; Manufacturer: Texas Instruments; Lead Acid: N; Li-Ion: Y; DatasheetVersion: SLUS879A; PackageVersion: revB, Apr-2006; PackageReference: DRZ12-1950X2450TP; PackageDescription: 12-Pin Plastic Small Outline No-Lead, 4 x 2.5 x 1 mm Body, 0.4 mm Pitch, Exposed Pad, Pb-Free; Supplier 1: Digi-Key; Supplier Part Number 1: 296-24165-2-ND; Supplier Part Number 3: 296-24165-6-ND; Eco-Plan: Green (RoHS & no Sb/Br); Li-Polymer: Y; NiCd: N; NiMH: N; Over Voltage Protection: N; SubFamily: Battery Fuel Gauge; Mounting Technology: Surface Mount; ComponentLink1Description: Datasheet; ComponentLink1URL: http://www.ti.com/general/docs/lit/getliterature.tsp?genericPartNumber=BQ27501&fileType=pdf
footprint DRZ12-1950X2450TP (SON, 12-Leads, Body 4x2.5mm, Pitch 0.4mm, Thermal Pad 1.95x2.45mm, TI Recommended)
pins: 1 BAT_LOW (out) "Battery-low output indicator. Active-high by default, though polarity can be configured through the [BATL_POL] in Operation Configuration. Push-pull output", 2 BI/TOUT (io) "Battery-insertion detection input. Power pin for pack thermistor network. Thermistor multiplexer control pin. Push-pull output. Use with pullup resistor > 1 M ohm (1.8 M ohm typical).", 3 TS (in) "Pack thermistor voltage sense (require the use of NTC 103AT-type thermistor). ADC input", 4 BAT (in) "Cell-voltage measurement input. ADC input. Decouple with 0.1uF capacitor.", 5 VCC (power) "Processor power input. Decouple with 0.1-uF minimum capacitor.", 6 VSS (power) "Device ground. Electrically connected to the IC exposed thermal pad (do not use thermal pad as primary ground. Connect thermal pad to Vss via a PCB trace).", 7 SRP (in) "Analog input pin connected to the internal coulomb counter, where SRP is nearest the PACK- connection. Connect to 5-m ohm to 20-m ohm sense resistor.", 8 SRN (in) "Analog input pin connected to the internal coulomb counter where SRN is nearest the System VSS connection. Connect to 5-m ohm to 20-m ohm sense resistor.", 9 RID (in) "Resistor ID input. Analog input with current sourcing capabilities", 10 SDA (io) "Slave I2C serial communications data line for communication with system (master). Open-drain I/O. Use with 10-k ohm pullup resistor (typical).", 11 SCL (io) "Slave I2C serial communications clock input line for communication with system (master). Open-drain I/O.Use with 10-k ohm pullup resistor (typical).", 12 ~{BAT_GD} (oc) "Battery-good indicator. Active-low by default, though polarity can be configured through the [BATG_POL] of Operation Configuration. Open-drain output", 13 EP (power) "exposed pad"

## BQ27505YZGR-J5
designator U?
System-Side Impedance Track Fuel Gauge, -40 to 85 degC, 12-pin DSBGA (YZG), Green (RoHS & no Sb/Br); PartNumber: BQ27505YZGR-J5; Manufacturer: Texas Instruments; Lead Acid: N; Li-Ion: Y; SubFamily: Battery Fuel Gauge; DatasheetVersion: SLVSAL4; PackageVersion: revD, Jun-2008; PackageReference: YZG12; PackageDescription: 12-Ball Die-Size Ball Grid Array, 2.43 x 1.96 mm Body, 0.5 mm Pitch; Supplier 1: Digi-Key; Supplier Part Number 1: BQ27505YZGR-J5-ND; Supplier Part Number 3: 595-BQ27505YZGR-J5; Eco-Plan: Green (RoHS & no Sb/Br); Li-Polymer: Y; NiCd: N; NiMH: N; Over Voltage Protection: N; Mounting Technology: Surface Mount; ComponentLink1Description: Datasheet; ComponentLink1URL: http://www.ti.com/general/docs/lit/getliterature.tsp?genericPartNumber=BQ27505-J5&fileType=pdf
footprint YZG12 (BGA, 12-Leads, Body 2.43x1.96mm, Pitch 0.5mm)
pins: A1 SRP (in) "Analog input pin connected to the internal coulomb counter where SRP is nearest the PACK- connection.Connect to 5-m ohm to 20-m ohm sense resistor.", A2 /BAT_GD (out) "Battery-good indicator. Active-low by default, though polarity can be configured through the [BATG_POL] bit of Operation Configuration. Push-pull output.", A3 SDA (io) "Slave I2C serial communications data line for communication with system (Master). Open-drain I/O. Use with 10k ohm pull-up resistor (typical).", B1 SRN (in) "Analog input pin connected to the internal coulomb counter where SRN is nearest the Vss connection.Connect to 5-m ohm to 20-m ohm sense resistor.", B2 SOC_INT (io) "SOC state interrupts output. Generate a pulse under the conditions specified by Table 5-6. Open drain output.", B3 SCL (in) "Slave I2C serial communications clock input line for communication with system (Master). Use with 10k ohm pull-up resistor (typical).", C1 BAT_LOW (out) "Battery Low output indicator. Active high by default, though polarity can be configured through the [BATL_POL]  bit of Operation Configuration. Push-pull output.", C2 BAT (in) "Cell-voltage measurement input. ADC input. Recommend 4.8V maximum for conversion accuracy.", C3 BI/TOUT (io) "Battery-insertion detection input. Power pin for pack thermistor network. Thermistor-multiplexer control pin. Use with pull-up resistor >1M ohm, (1.8 M ohm typical).", D1 VSS (power) "Device ground", D2 VCC (power) "Processor power input. Decouple with minimum 0.1uF ceramic capacitor.", D3 TS (in) "Pack thermistor voltage sense (use 103AT-type thermistor). ADC input"

## BQ27505YZGT-J5
designator U?
System-Side Impedance Track Fuel Gauge, -40 to 85 degC, 12-pin DSBGA (YZG), Green (RoHS & no Sb/Br); PartNumber: BQ27505YZGT-J5; Manufacturer: Texas Instruments; Lead Acid: N; Li-Ion: Y; SubFamily: Battery Fuel Gauge; DatasheetVersion: SLVSAL4; PackageVersion: revD, Jun-2008; PackageReference: YZG12; PackageDescription: 12-Ball Die-Size Ball Grid Array, 2.43 x 1.96 mm Body, 0.5 mm Pitch; Supplier 1: Digi-Key; Supplier Part Number 1: 296-28319-2-ND; Supplier Part Number 3: 296-28319-6-ND; Eco-Plan: Green (RoHS & no Sb/Br); Li-Polymer: Y; NiCd: N; NiMH: N; Over Voltage Protection: N; Mounting Technology: Surface Mount; ComponentLink1Description: Datasheet; ComponentLink1URL: http://www.ti.com/general/docs/lit/getliterature.tsp?genericPartNumber=BQ27505-J5&fileType=pdf
footprint YZG12 (BGA, 12-Leads, Body 2.43x1.96mm, Pitch 0.5mm)
pins: A1 SRP (in) "Analog input pin connected to the internal coulomb counter where SRP is nearest the PACK- connection.Connect to 5-m ohm to 20-m ohm sense resistor.", A2 /BAT_GD (out) "Battery-good indicator. Active-low by default, though polarity can be configured through the [BATG_POL] bit of Operation Configuration. Push-pull output.", A3 SDA (io) "Slave I2C serial communications data line for communication with system (Master). Open-drain I/O. Use with 10k ohm pull-up resistor (typical).", B1 SRN (in) "Analog input pin connected to the internal coulomb counter where SRN is nearest the Vss connection.Connect to 5-m ohm to 20-m ohm sense resistor.", B2 SOC_INT (io) "SOC state interrupts output. Generate a pulse under the conditions specified by Table 5-6. Open drain output.", B3 SCL (in) "Slave I2C serial communications clock input line for communication with system (Master). Use with 10k ohm pull-up resistor (typical).", C1 BAT_LOW (out) "Battery Low output indicator. Active high by default, though polarity can be configured through the [BATL_POL]  bit of Operation Configuration. Push-pull output.", C2 BAT (in) "Cell-voltage measurement input. ADC input. Recommend 4.8V maximum for conversion accuracy.", C3 BI/TOUT (io) "Battery-insertion detection input. Power pin for pack thermistor network. Thermistor-multiplexer control pin. Use with pull-up resistor >1M ohm, (1.8 M ohm typical).", D1 VSS (power) "Device ground", D2 VCC (power) "Processor power input. Decouple with minimum 0.1uF ceramic capacitor.", D3 TS (in) "Pack thermistor voltage sense (use 103AT-type thermistor). ADC input"

## BQ27510DRZR-G2
designator U?
System-Side Impedance-Track Fuel Gauge with Direct Battery Connection, -40 to 85 degC, 12-pin SON (DRZ), Green (RoHS & no Sb/Br); PartNumber: BQ27510DRZR-G2; Manufacturer: Texas Instruments; Lead Acid: N; Li-Ion: Y; SubFamily: Battery Fuel Gauge; DatasheetVersion: SLUS948; PackageVersion: revB, Apr-2006; PackageReference: DRZ12-1950X2450TP; PackageDescription: 12-Pin Plastic Small Outline No-Lead, 4 x 2.5 x 1 mm Body, 0.4 mm Pitch, Exposed Pad, Pb-Free; Supplier 1: Digi-Key; Supplier Part Number 1: 296-27728-2-ND; Supplier Part Number 3: 296-27728-6-ND; Eco-Plan: Green (RoHS & no Sb/Br); Li-Polymer: Y; NiCd: N; NiMH: N; Over Voltage Protection: N; Mounting Technology: Surface Mount; ComponentLink1Description: Datasheet; ComponentLink1URL: http://www.ti.com/general/docs/lit/getliterature.tsp?genericPartNumber=BQ27510-G2&fileType=pdf
footprint DRZ12-1950X2450TP (SON, 12-Leads, Body 4x2.5mm, Pitch 0.4mm, Thermal Pad 1.95x2.45mm, TI Recommended)
pins: 1 BI/TOUT (io) "Battery-insertion detection input. Power pin for pack thermistor network. Thermistor-multiplexer control pin. Open-drain I/O. Use with pull-up resistor >1M ohm (1.8 M ohm typical).", 2 REG25 (power) "2.5 V output voltage of the internal integrated LDO.", 3 REGIN (power) "The input voltage for the internal integrated LDO.", 4 BAT (in) "Cell voltage measurement input. ADC input.", 5 VCC (power) "Processor power input. Decouple with 0.1uF ceramic capacitor minimum.", 6 VSS (power) "Device ground", 7 SRP (in) "Analog input pin connected to the internal coulomb counter where SRP is nearest the PACK-connection. Connect to 5-M ohm  to 20-M ohm sense resistor.", 8 SRN (in) "Analog input pin connected to the internal coulomb counter where SRN is nearest the VSS-connection. Connect to a 5-M ohm to 20-M ohm sense resistor.", 9 TS (in) "Pack thermistor voltage sense (use 103AT-type thermistor). ADC input", 10 SDA (io) "Slave I2C serial communications data line for communication with system (Master). Open-drain I/O. Use with 10-K ohm pull-up resistor (typical).", 11 SCL (in) "Slave I2C serial communications clock input line for communication with system (Master). Use with 10-K ohm pull-up resistor (typical).", 12 BAT_LOW/BAT_GD (oc) "Battery-good or Battery-low output indicator. Desired function polarity selected through the Operation Configuration register. Open-drain output", 13 EP "Exposed pad."